# Altium schematic symbol library DI_LED_RED_GREEN.SchLib: 1 symbol
Pins are listed as number, name and electrical type; pins without a type are passive.

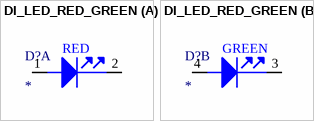
[diagram p0: symbol DI_LED_RED_GREEN]

## DI_LED_RED_GREEN
designator D?
part A pins: 1, 2
part B pins: 3, 4
part A text: RED
part B text: GREEN